# EAGLE library part LAUNCHPAD (library mylbr)
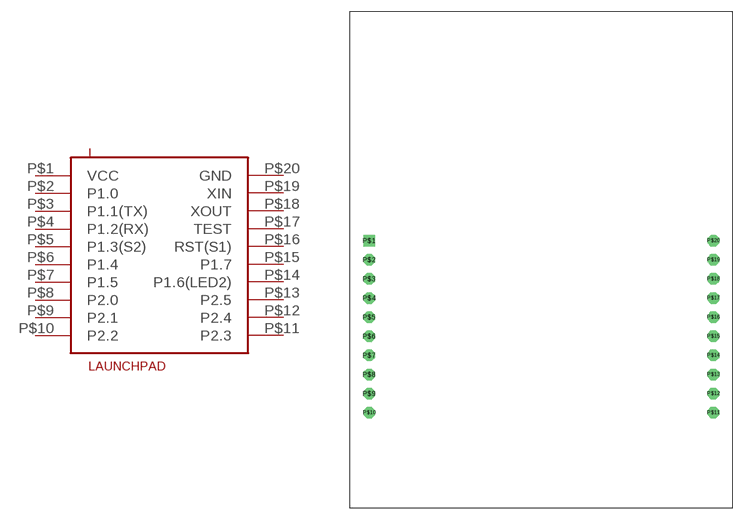
[diagram p3: symbol with the pads of LAUNCHPAD; footprint LAUNCHPAD]

Designator prefix L

## LAUNCHPAD  [LAUNCHPAD]
P$1  VCC
P$2  P1.0
P$3  P1.1(TX)
P$4  P1.2(RX)
P$5  P1.3(S2)
P$6  P1.4
P$7  P1.5
P$8  P2.0
P$9  P2.1
P$10  P2.2
P$11  P2.3
P$12  P2.4
P$13  P2.5
P$14  P1.6(LED2)
P$15  P1.7
P$16  RST(S1)
P$17  TEST
P$18  XOUT
P$19  XIN
P$20  GND

## Footprint LAUNCHPAD (pad centres in mm)
drill 1.016 square: P$1 0,0
drill 1.016 octagon: P$2 0,-2.54; P$3 0,-5.08; P$4 0,-7.62; P$5 0,-10.16; P$6 0,-12.7; P$7 0,-15.24; P$8 0,-17.78; P$9 0,-20.32; P$10 0,-22.86; P$11 45.72,-22.86; P$12 45.72,-20.32; P$13 45.72,-17.78; P$14 45.72,-15.24; P$15 45.72,-12.7; P$16 45.72,-10.16; P$17 45.72,-7.62; P$18 45.72,-5.08; P$19 45.72,-2.54; P$20 45.72,0